# Altium footprint library OpenECADLib-fp-0019.PcbLib: 1 footprints
Each footprint in its own frame and in the unit in brackets; x right, y up, seen from the top. Pads: shape width x height; smd on the part's side, far side on the other; paste and mask are expansions set on the pad; w line width, h text height; cw(c..) or ccw(c..) is an arc to the next point about the centre after c.
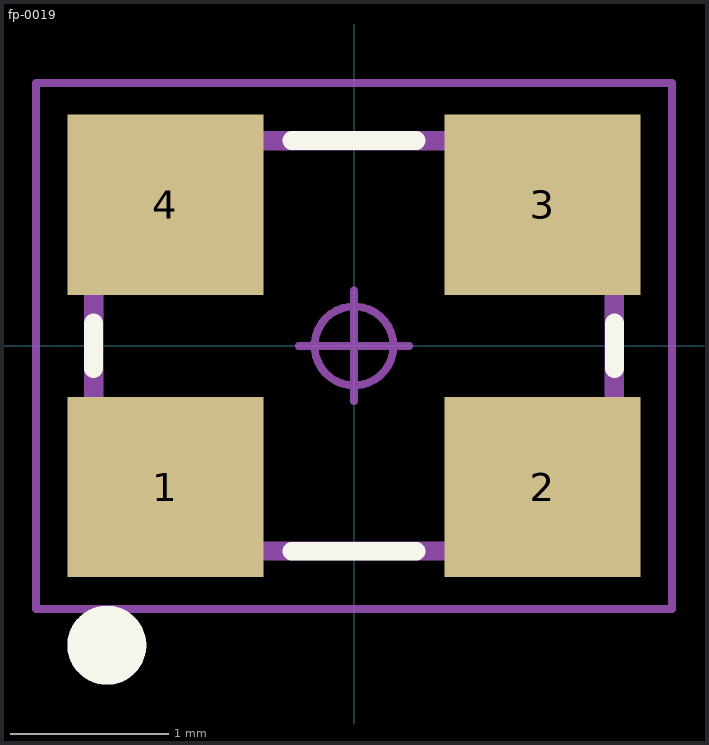
[diagram p0: the footprint, top view; thin cyan lines are the x and y axes]

## fp-0019 [mm] "OSCCC320X250X80L90X100N, Oscillator, Corner Concave; 3.20 mm L X 2.50 mm W X 0.80 mm H body"
height 0.8
pads (4):
  rect 1.24x1.14 smd: 1(-1.194,-0.894) 2(1.194,-0.894) 3(1.194,0.894) 4(-1.194,0.894)
Top Overlay:
  circle w0.25: c-1.565,-1.895 r0.125
  lines w0.12: -1.65,-0.144 -1.65,0.144 ; -0.394,-1.3 0.394,-1.3 ; -0.394,1.3 0.394,1.3 ; 1.65,-0.144 1.65,0.144
Top Assembly:
  lines w0.12: -1.65,-0.433 -0.783,-1.3 1.65,-1.3 1.65,1.3 -1.65,1.3 -1.65,-0.433
Top Courtyard:
  circle w0.05: c0,0 r0.25
  lines w0.05: -0.35,0 0.35,0 ; 0,-0.35 0,0.35 ; -2.014,-1.665 -2.014,1.665 2.014,1.665 2.014,-1.665 -2.014,-1.665
Top Component Outline (Mech15):
  lines w0.025: -1.6,-1.25 -0.6,-1.25 -0.6,-0.35 -1.6,-0.35 -1.6,-1.25 ; -1.6,-1.25 -1.6,1.25 ; -1.6,-1.25 1.6,-1.25 ; -1.6,1.25 -1.6,0.35 -0.6,0.35 -0.6,1.25 -1.6,1.25 ; -1.6,1.25 1.6,1.25 ; 1.6,-1.25 1.6,-0.35 0.6,-0.35 0.6,-1.25 1.6,-1.25 ; 1.6,-1.25 1.6,1.25 ; 1.6,1.25 0.6,1.25 0.6,0.35 1.6,0.35 1.6,1.25
Top Designator:
  text ".Designator" at -2.477,-0.209 h1
3D body "3d-0019.step": height 0.8, standoff 0, extent -1.6,-1.25 1.6,1.25